# Altium footprint library Regulador de tensão.PcbLib: 1 footprints
Each footprint in its own frame and in the unit in brackets; x right, y up, seen from the top. Pads: shape width x height; smd on the part's side, far side on the other; paste and mask are expansions set on the pad; w line width, h text height; cw(c..) or ccw(c..) is an arc to the next point about the centre after c.
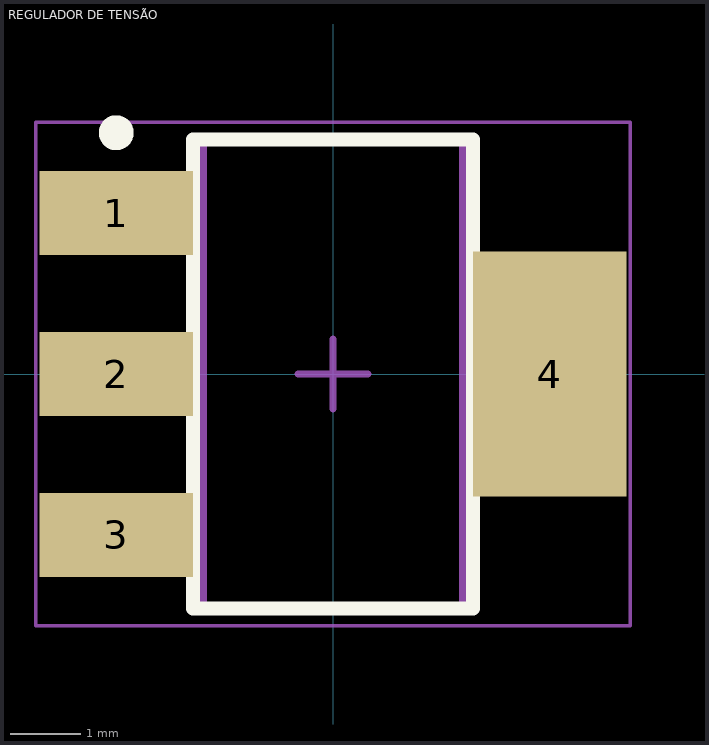
[diagram p0: the footprint, top view; thin cyan lines are the x and y axes]

## REGULADOR DE TENSÃO [mm] "IC REG LINEAR 3.3V 1A SOT223"
height 1.8
pads (4):
  rect 2.2x1.2 smd: 1(-3.1,2.3) 2(-3.1,0) 3(-3.1,-2.3)
  rect 2.2x3.5 smd: 4(3.1,0)
Top Overlay:
  circle w0.25: c-3.1,3.45 r0.125
  lines w0.2: -2,-3.35 2,-3.35 2,3.35 -2,3.35 -2,-3.35
Mechanical 13:
  lines w0.1: -1.85,-3.35 1.85,-3.35 1.85,3.35 -1.85,3.35 -1.85,-3.35
Mechanical 15:
  lines w0.05: -4.25,-3.6 4.25,-3.6 4.25,3.6 -4.25,3.6 -4.25,-3.6
  lines w0.1: -0.5,0 0.5,0 ; 0,-0.5 0,0.5
3D body: height 0.25, standoff 0, extent 4.318,-2.413 4.318,-2.413
3D body "User Library-AMS1117-1.step": height 1.9, standoff 0.04, extent -3.436,-3.253 3.564,3.252